# Altium schematic symbol library Schlib1.SchLib: 12 symbols
Pins are listed as number, name and electrical type; pins without a type are passive.

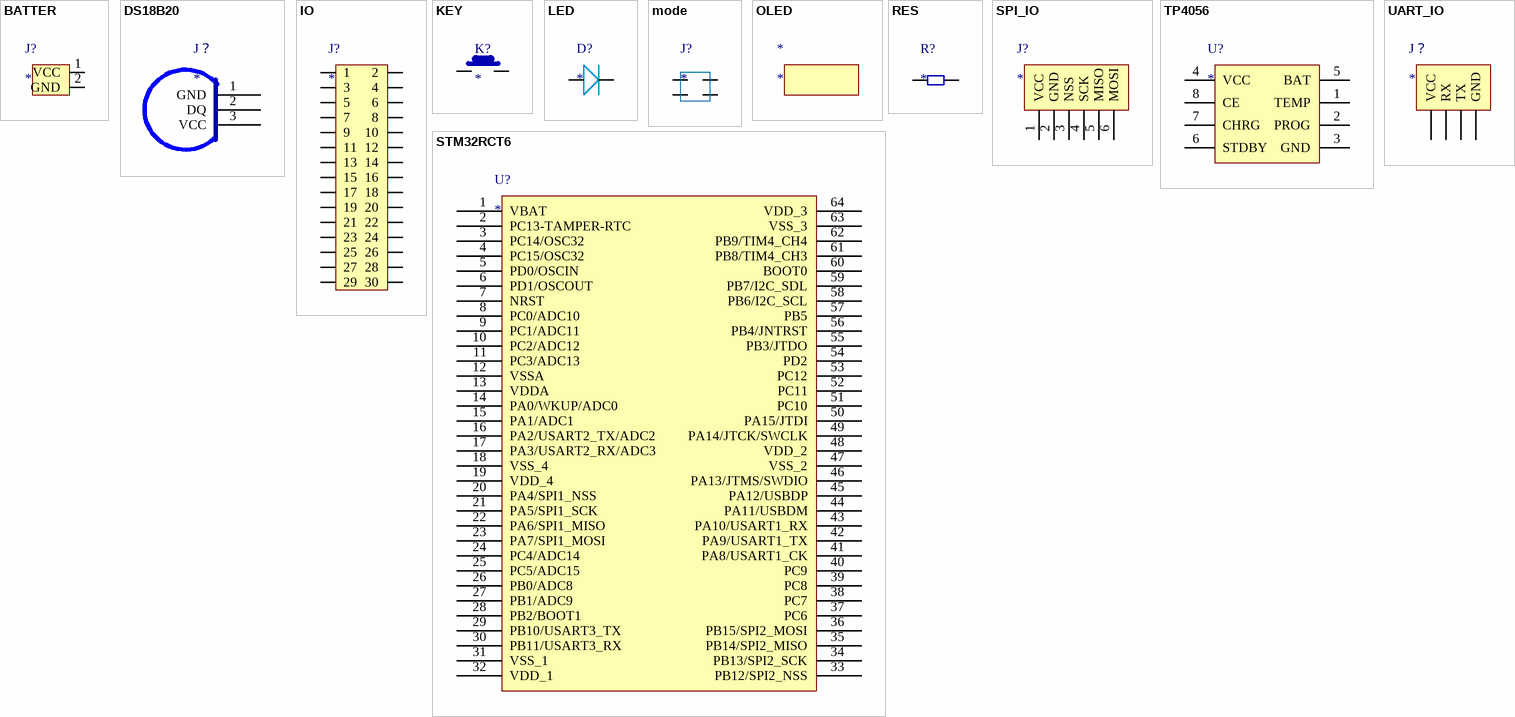
[diagram p0: symbols BATTER to UART_IO]

## BATTER
designator J?
footprint XH_2501R_2P_LOCKED_JX
pins: 1 VCC, 2 GND

## DS18B20
designator J？
footprint DS18B20
pins: 1 GND, 2 DQ, 3 VCC

## IO
designator J?
footprint IO
pins: 1, 2, 3, 4, 5, 6, 7, 8, 9, 10, 11, 12, 13, 14, 15, 16, 17, 18, 19, 20, 21, 22, 23, 24, 25, 26, 27, 28, 29, 30

## KEY
designator K?
footprint KEY
pins: 1  , 2  

## LED
designator D?
footprint 0603_R_JX
pins: 1  , 2  

## mode
designator J?
footprint mode
pins: 1  , 2  , 3  , 4  

## OLED
designator *

## RES
designator R?
footprint 0805
pins: 1  , 2  

## SPI_IO
designator J?
footprint SPI_IO
pins: 1 VCC, 2 GND, 3 NSS, 4 SCK, 5 MISO, 6 MOSI

## STM32RCT6
designator U?
footprint LQFP64 (SOT-223/SC-73; 4 Leads; Body 6.7 x 7.3 mm, inc. leads (LxW max))
pins: 1 VBAT, 2 PC13-TAMPER-RTC, 3 PC14/OSC32, 4 PC15/OSC32, 5 PD0/OSCIN, 6 PD1/OSCOUT, 7 NRST, 8 PC0/ADC10, 9 PC1/ADC11, 10 PC2/ADC12, 11 PC3/ADC13, 12 VSSA, 13 VDDA, 14 PA0/WKUP/ADC0, 15 PA1/ADC1, 16 PA2/USART2_TX/ADC2, 17 PA3/USART2_RX/ADC3, 18 VSS_4, 19 VDD_4, 20 PA4/SPI1_NSS, 21 PA5/SPI1_SCK, 22 PA6/SPI1_MISO, 23 PA7/SPI1_MOSI, 24 PC4/ADC14, 25 PC5/ADC15, 26 PB0/ADC8, 27 PB1/ADC9, 28 PB2/BOOT1, 29 PB10/USART3_TX, 30 PB11/USART3_RX, 31 VSS_1, 32 VDD_1, 33 PB12/SPI2_NSS, 34 PB13/SPI2_SCK, 35 PB14/SPI2_MISO, 36 PB15/SPI2_MOSI, 37 PC6, 38 PC7, 39 PC8, 40 PC9, 41 PA8/USART1_CK, 42 PA9/USART1_TX, 43 PA10/USART1_RX, 44 PA11/USBDM, 45 PA12/USBDP, 46 PA13/JTMS/SWDIO, 47 VSS_2, 48 VDD_2, 49 PA14/JTCK/SWCLK, 50 PA15/JTDI, 51 PC10, 52 PC11, 53 PC12, 54 PD2, 55 PB3/JTDO, 56 PB4/JNTRST, 57 PB5, 58 PB6/I2C_SCL, 59 PB7/I2C_SDL, 60 BOOT0, 61 PB8/TIM4_CH3, 62 PB9/TIM4_CH4, 63 VSS_3, 64 VDD_3

## TP4056
designator U?
footprint SOP8_150MIL_JX
pins: 1 TEMP, 2 PROG, 3 GND, 4 VCC, 5 BAT, 6 STDBY, 7 CHRG, 8 CE

## UART_IO
designator J？
footprint USART_IO
pins: 1 VCC, 2 RX, 3 TX, 4 GND